# Altium footprint library Connector Header 127.PcbLib: 1 footprints
Each footprint in its own frame and in the unit in brackets; x right, y up, seen from the top. Pads: shape width x height; smd on the part's side, far side on the other; paste and mask are expansions set on the pad; w line width, h text height; cw(c..) or ccw(c..) is an arc to the next point about the centre after c.
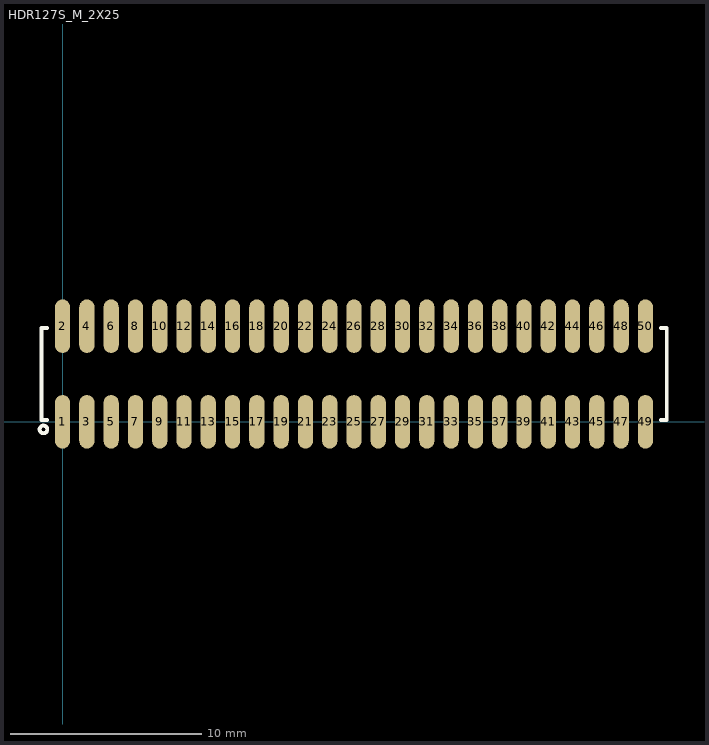
[diagram p0: the footprint, top view; thin cyan lines are the x and y axes]

## HDR127S_M_2X25 [mm] "Header 1.27mm pitch"
height 1.2
pads (50):
  oval 0.8x2.8 smd mask+0.1: 1(0,0) 2(0,5) 3(1.27,0) 4(1.27,5) 5(2.54,0) 6(2.54,5) 7(3.81,0) 8(3.81,5) 9(5.08,0) 10(5.08,5) 11(6.35,0) 12(6.35,5) 13(7.62,0) 14(7.62,5) 15(8.89,0) 16(8.89,5) 17(10.16,0) 18(10.16,5) 19(11.43,0) 20(11.43,5) 21(12.7,0) 22(12.7,5) 23(13.97,0) 24(13.97,5) 25(15.24,0) 26(15.24,5) 27(16.51,0) 28(16.51,5) 29(17.78,0) 30(17.78,5) 31(19.05,0) 32(19.05,5) 33(20.32,0) 34(20.32,5) 35(21.59,0) 36(21.59,5) 37(22.86,0) 38(22.86,5) 39(24.13,0) 40(24.13,5) 41(25.4,0) 42(25.4,5) 43(26.67,0) 44(26.67,5) 45(27.94,0) 46(27.94,5) 47(29.21,0) 48(29.21,5) 49(30.48,0) 50(30.48,5)
Top Overlay:
  circle w0.2: c-1,-0.4 r0.2
  lines w0.2: -0.8,0.1 -1.1,0.1 -1.1,4.9 -0.8,4.9 ; 31.3,0.1 31.6,0.1 31.6,4.9 31.3,4.9
3D body "pin_header_a-sl127-dg-g02mp1.stp": height 6.5, standoff 0.1, extent 27.305,-0.252 28.575,5.252
3D body "pin_header_a-sl127-dg-g02mp1.stp": height 6.5, standoff 0.1, extent 28.575,-0.252 29.845,5.252
3D body "pin_header_a-sl127-dg-g02mp1.stp": height 6.5, standoff 0.1, extent 29.845,-0.252 31.115,5.252
3D body "pin_header_a-sl127-dg-g02mp1.stp": height 6.5, standoff 0.1, extent 24.765,-0.252 26.035,5.252
3D body "pin_header_a-sl127-dg-g02mp1.stp": height 6.5, standoff 0.1, extent 26.035,-0.252 27.305,5.252
3D body "pin_header_a-sl127-dg-g02mp1.stp": height 6.5, standoff 0.1, extent 20.955,-0.252 22.225,5.252
3D body "pin_header_a-sl127-dg-g02mp1.stp": height 6.5, standoff 0.1, extent 22.225,-0.252 23.495,5.252
3D body "pin_header_a-sl127-dg-g02mp1.stp": height 6.5, standoff 0.1, extent 23.495,-0.252 24.765,5.252
3D body "pin_header_a-sl127-dg-g02mp1.stp": height 6.5, standoff 0.1, extent 18.415,-0.252 19.685,5.252
3D body "pin_header_a-sl127-dg-g02mp1.stp": height 6.5, standoff 0.1, extent 19.685,-0.252 20.955,5.252
3D body "pin_header_a-sl127-dg-g02mp1.stp": height 6.5, standoff 0.1, extent 14.605,-0.252 15.875,5.252
3D body "pin_header_a-sl127-dg-g02mp1.stp": height 6.5, standoff 0.1, extent 15.875,-0.252 17.145,5.252
3D body "pin_header_a-sl127-dg-g02mp1.stp": height 6.5, standoff 0.1, extent 17.145,-0.252 18.415,5.252
3D body "pin_header_a-sl127-dg-g02mp1.stp": height 6.5, standoff 0.1, extent 12.065,-0.252 13.335,5.252
3D body "pin_header_a-sl127-dg-g02mp1.stp": height 6.5, standoff 0.1, extent 13.335,-0.252 14.605,5.252
3D body "pin_header_a-sl127-dg-g02mp1.stp": height 6.5, standoff 0.1, extent -0.635,-0.252 0.635,5.252
3D body "pin_header_a-sl127-dg-g02mp1.stp": height 6.5, standoff 0.1, extent 0.635,-0.252 1.905,5.252
3D body "pin_header_a-sl127-dg-g02mp1.stp": height 6.5, standoff 0.1, extent 1.905,-0.252 3.175,5.252
3D body "pin_header_a-sl127-dg-g02mp1.stp": height 6.5, standoff 0.1, extent 3.175,-0.252 4.445,5.252
3D body "pin_header_a-sl127-dg-g02mp1.stp": height 6.5, standoff 0.1, extent 6.985,-0.252 8.255,5.252
3D body "pin_header_a-sl127-dg-g02mp1.stp": height 6.5, standoff 0.1, extent 5.715,-0.252 6.985,5.252
3D body "pin_header_a-sl127-dg-g02mp1.stp": height 6.5, standoff 0.1, extent 4.445,-0.252 5.715,5.252
3D body "pin_header_a-sl127-dg-g02mp1.stp": height 6.5, standoff 0.1, extent 10.795,-0.252 12.065,5.252
3D body "pin_header_a-sl127-dg-g02mp1.stp": height 6.5, standoff 0.1, extent 9.525,-0.252 10.795,5.252
3D body "pin_header_a-sl127-dg-g02mp1.stp": height 6.5, standoff 0.1, extent 8.255,-0.252 9.525,5.252